# Altium schematic symbol library ADP150AUJZ-3.3.SchLib: 1 symbol
Pins are listed as number, name and electrical type; pins without a type are passive.

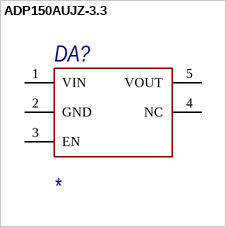
[diagram p0: symbol ADP150AUJZ-3.3]

## ADP150AUJZ-3.3
designator DA?
pins: 1 VIN, 2 GND, 3 EN, 4 NC, 5 VOUT